# Altium integrated library TI Microcontroller MSP430 16-bit Ultra-Low Power.IntLib: 1463 symbols (part 63 of 130)
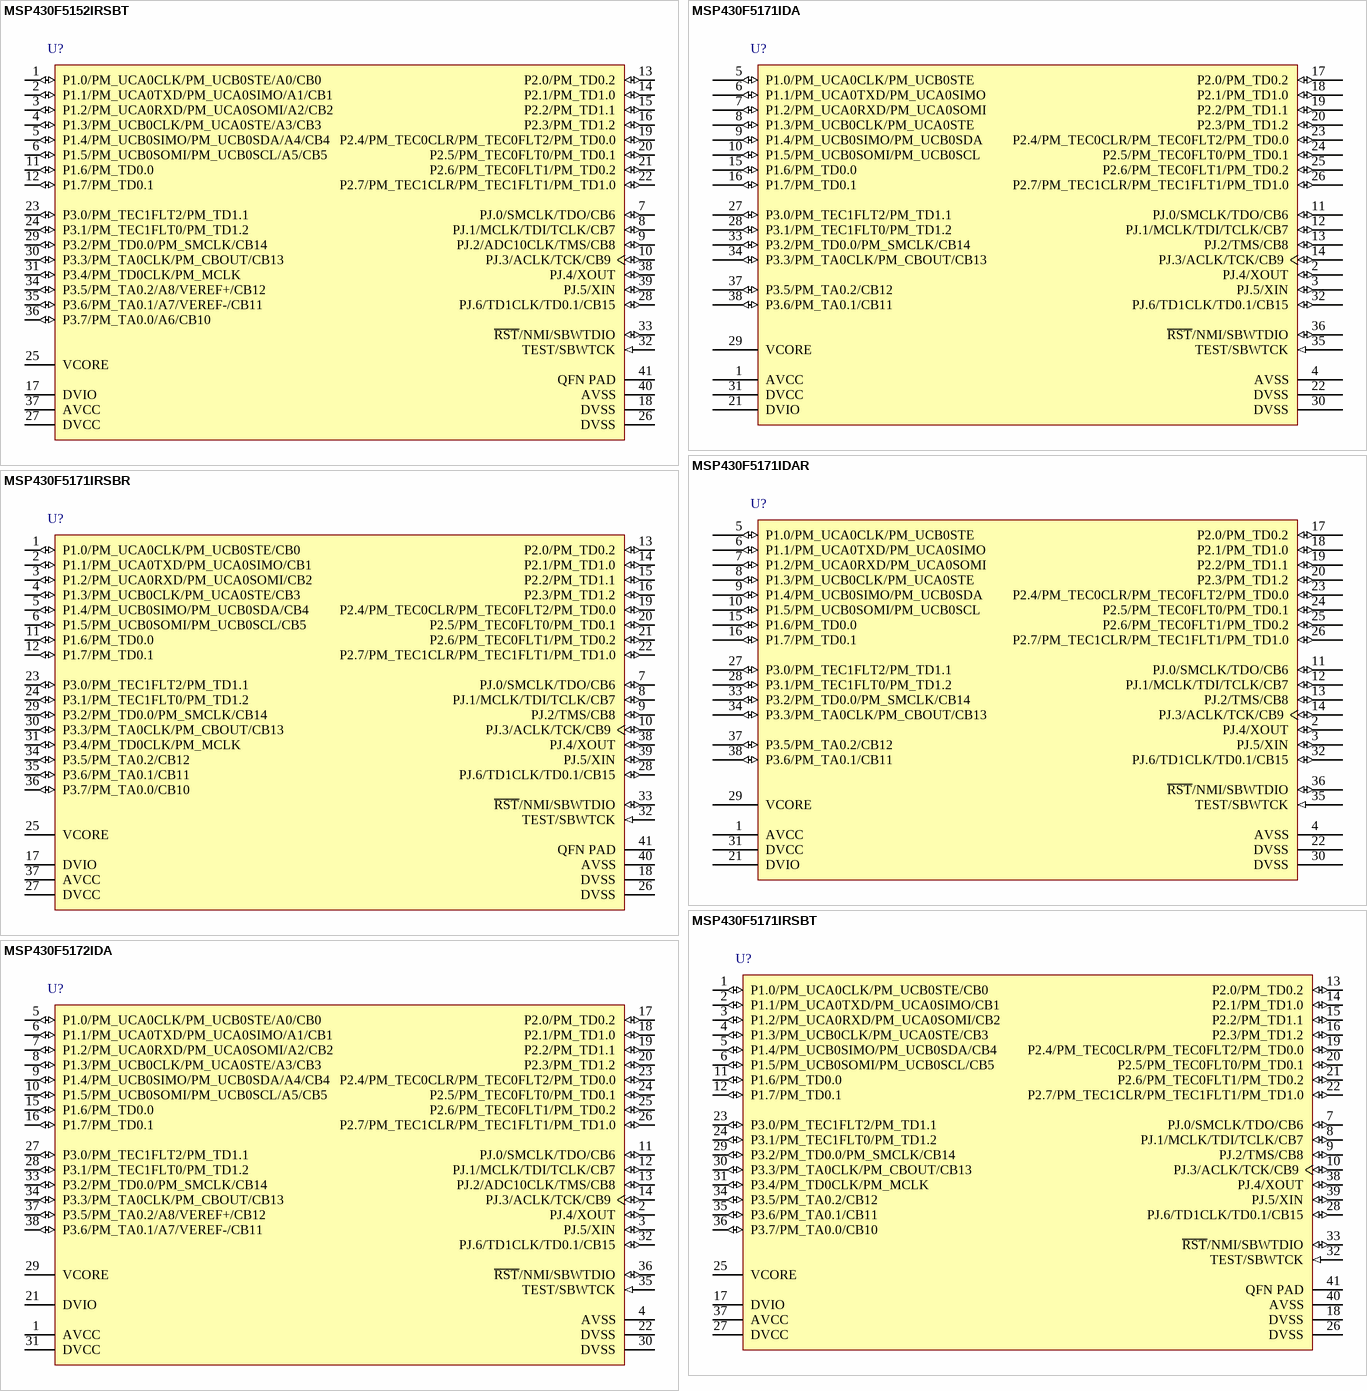
[diagram p267: symbols MSP430F5152IRSBT to MSP430F5172IDA]

## MSP430F5171IDA
designator U?
25 MHz Mixed Signal Microcontroller with 32 KB Flash, 2048 B SRAM and 29 GPIOs, -40 to 85 degC, 38-pin SOP (DA), Green (RoHS & no Sb/Br); Manufacturer: Texas Instruments; PartNumber: MSP430F5171IDA; Brown Out Reset: Yes; DMA: 3; Flash(KB): 32; Frequency(MHz): 25; GPIO: 29; Multiplier: 32x32; SRAM(B): 2048; SubFamily: 5 Series; USCI_A (UART/LIN/IrDA/SPI): 1; DatasheetVersion: SLAS619G; PackageVersion: 4040066/F; PackageReference: DA38; PackageDescription: 38-Pin Plastic Small-Outline Package, Body 6.10 x 12.50 mm, Pitch 0.65 mm; Supplier 1: Digi-Key; Supplier Part Number 1: MSP430F5152IRSBT-ND; Supplier 2: Newark; Supplier Part Number 2: 61T5919; Supplier 3: Mouser; Supplier Part Number 3: 595-MSP430F5152IRSBT; Comparators: Yes; Eco-Plan: Green (RoHS & no Sb/Br); SVS: Yes; Timers - 16-bit: 3; USCI_B (I2C & SPI): 1; Watchdog: Yes; Mounting Technology: Surface Mount; Code_JEDEC: MO-153; ComponentLink1Description: Manufacturer URL; ComponentLink1URL: http://www.ti.com/; ComponentLink2Description: Datasheet; ComponentLink2URL: http://www.ti.com/general/docs/lit/getliterature.tsp?genericPartNumber=MSP430F5171&fileType=pdf; ComponentLink3Description: Package Specification; ComponentLink3URL: http://www.ti.com/lit/ml/mtss002e/mtss002e.pdf
footprint TI-DA38_N (SOP, 38-Leads, Body 12.5x6.1mm, Pitch 0.65mm, IPC Medium Density)
pins: 1 AVCC (power) "Analog power supply", 2 PJ.4/XOUT (io), 3 PJ.5/XIN (io), 4 AVSS (power) "Analog ground supply", 5 P1.0/PM_UCA0CLK/PM_UCB0STE (io), 6 P1.1/PM_UCA0TXD/PM_UCA0SIMO (io), 7 P1.2/PM_UCA0RXD/PM_UCA0SOMI (io), 8 P1.3/PM_UCB0CLK/PM_UCA0STE (io), 9 P1.4/PM_UCB0SIMO/PM_UCB0SDA (io), 10 P1.5/PM_UCB0SOMI/PM_UCB0SCL (io), 11 PJ.0/SMCLK/TDO/CB6 (io), 12 PJ.1/MCLK/TDI/TCLK/CB7 (io), 13 PJ.2/TMS/CB8 (io), 14 PJ.3/ACLK/TCK/CB9 (io), 15 P1.6/PM_TD0.0 (io), 16 P1.7/PM_TD0.1 (io), 17 P2.0/PM_TD0.2 (io), 18 P2.1/PM_TD1.0 (io), 19 P2.2/PM_TD1.1 (io), 20 P2.3/PM_TD1.2 (io), 21 DVIO (power) "5V tolerant digital I/O power supply", 22 DVSS (power) "Digital ground supply", 23 P2.4/PM_TEC0CLR/PM_TEC0FLT2/PM_TD0.0 (io), 24 P2.5/PM_TEC0FLT0/PM_TD0.1 (io), 25 P2.6/PM_TEC0FLT1/PM_TD0.2 (io), 26 P2.7/PM_TEC1CLR/PM_TEC1FLT1/PM_TD1.0 (io), 27 P3.0/PM_TEC1FLT2/PM_TD1.1 (io), 28 P3.1/PM_TEC1FLT0/PM_TD1.2 (io), 29 VCORE "Regulated core power supply", 30 DVSS "Digital ground supply", 31 DVCC (power) "Digital power supply", 32 PJ.6/TD1CLK/TD0.1/CB15 (io), 33 P3.2/PM_TD0.0/PM_SMCLK/CB14 (io), 34 P3.3/PM_TA0CLK/PM_CBOUT/CB13 (io), 35 TEST/SBWTCK (in), 36 ~{RST}/NMI/SBWTDIO (io), 37 P3.5/PM_TA0.2/CB12 (io), 38 P3.6/PM_TA0.1/CB11 (io)

## MSP430F5171IDAR
designator U?
25 MHz Mixed Signal Microcontroller with 32 KB Flash, 2048 B SRAM and 29 GPIOs, -40 to 85 degC, 38-pin SOP (DA), Green (RoHS & no Sb/Br); Manufacturer: Texas Instruments; PartNumber: MSP430F5171IDAR; Brown Out Reset: Yes; DMA: 3; Flash(KB): 32; Frequency(MHz): 25; GPIO: 29; Multiplier: 32x32; SRAM(B): 2048; SubFamily: 5 Series; USCI_A (UART/LIN/IrDA/SPI): 1; DatasheetVersion: SLAS619G; PackageVersion: 4040066/F; PackageReference: DA38; PackageDescription: 38-Pin Plastic Small-Outline Package, Body 6.10 x 12.50 mm, Pitch 0.65 mm; Supplier 1: Digi-Key; Supplier Part Number 1: MSP430F5171IDA-ND; Supplier 2: Mouser; Supplier Part Number 2: 595-MSP430F5171IDA; Comparators: Yes; Eco-Plan: Green (RoHS & no Sb/Br); SVS: Yes; Timers - 16-bit: 3; USCI_B (I2C & SPI): 1; Watchdog: Yes; Mounting Technology: Surface Mount; Code_JEDEC: MO-153; ComponentLink1Description: Manufacturer URL; ComponentLink1URL: http://www.ti.com/; ComponentLink2Description: Datasheet; ComponentLink2URL: http://www.ti.com/general/docs/lit/getliterature.tsp?genericPartNumber=MSP430F5171&fileType=pdf; ComponentLink3Description: Package Specification; ComponentLink3URL: http://www.ti.com/lit/ml/mtss002e/mtss002e.pdf
footprint TI-DA38_N (SOP, 38-Leads, Body 12.5x6.1mm, Pitch 0.65mm, IPC Medium Density)
pins: 1 AVCC (power) "Analog power supply", 2 PJ.4/XOUT (io), 3 PJ.5/XIN (io), 4 AVSS (power) "Analog ground supply", 5 P1.0/PM_UCA0CLK/PM_UCB0STE (io), 6 P1.1/PM_UCA0TXD/PM_UCA0SIMO (io), 7 P1.2/PM_UCA0RXD/PM_UCA0SOMI (io), 8 P1.3/PM_UCB0CLK/PM_UCA0STE (io), 9 P1.4/PM_UCB0SIMO/PM_UCB0SDA (io), 10 P1.5/PM_UCB0SOMI/PM_UCB0SCL (io), 11 PJ.0/SMCLK/TDO/CB6 (io), 12 PJ.1/MCLK/TDI/TCLK/CB7 (io), 13 PJ.2/TMS/CB8 (io), 14 PJ.3/ACLK/TCK/CB9 (io), 15 P1.6/PM_TD0.0 (io), 16 P1.7/PM_TD0.1 (io), 17 P2.0/PM_TD0.2 (io), 18 P2.1/PM_TD1.0 (io), 19 P2.2/PM_TD1.1 (io), 20 P2.3/PM_TD1.2 (io), 21 DVIO (power) "5V tolerant digital I/O power supply", 22 DVSS (power) "Digital ground supply", 23 P2.4/PM_TEC0CLR/PM_TEC0FLT2/PM_TD0.0 (io), 24 P2.5/PM_TEC0FLT0/PM_TD0.1 (io), 25 P2.6/PM_TEC0FLT1/PM_TD0.2 (io), 26 P2.7/PM_TEC1CLR/PM_TEC1FLT1/PM_TD1.0 (io), 27 P3.0/PM_TEC1FLT2/PM_TD1.1 (io), 28 P3.1/PM_TEC1FLT0/PM_TD1.2 (io), 29 VCORE "Regulated core power supply", 30 DVSS "Digital ground supply", 31 DVCC (power) "Digital power supply", 32 PJ.6/TD1CLK/TD0.1/CB15 (io), 33 P3.2/PM_TD0.0/PM_SMCLK/CB14 (io), 34 P3.3/PM_TA0CLK/PM_CBOUT/CB13 (io), 35 TEST/SBWTCK (in), 36 ~{RST}/NMI/SBWTDIO (io), 37 P3.5/PM_TA0.2/CB12 (io), 38 P3.6/PM_TA0.1/CB11 (io)

## MSP430F5171IRSBR
designator U?
25 MHz Mixed Signal Microcontroller with 32 KB Flash, 2048 B SRAM and 29 GPIOs, -40 to 85 degC, 40-pin QFN (RSB), Green (RoHS & no Sb/Br); Manufacturer: Texas Instruments; PartNumber: MSP430F5171IRSBR; Brown Out Reset: Yes; DMA: 3; Flash(KB): 32; Frequency(MHz): 25; GPIO: 29; Multiplier: 32x32; SRAM(B): 2048; SubFamily: 5 Series; USCI_A (UART/LIN/IrDA/SPI): 1; DatasheetVersion: SLAS619G; PackageVersion: 4207182/C; PackageReference: RSB40-3500X3500TP; PackageDescription: 40-Pin Plastic Flat Pack, Body 5 × 5 mm, Pitch 0.4mm; Supplier 1: Digi-Key; Supplier Part Number 1: 296-29350-2-ND; Supplier 2: Digi-Key; Supplier Part Number 2: 296-29350-1-ND; Supplier 3: Digi-Key; Supplier Part Number 3: 296-29350-6-ND; Supplier 4: Farnell; Supplier Part Number 4: 2057045; Supplier 5: Newark; Supplier Part Number 5: 61T5921; Supplier 6: Mouser; Supplier Part Number 6: 595-MSP430F5171IDAR; Comparators: Yes; Eco-Plan: Green (RoHS & no Sb/Br); SVS: Yes; Timers - 16-bit: 3; USCI_B (I2C & SPI): 1; Watchdog: Yes; Mounting Technology: Surface Mount; ComponentLink1Description: Manufacturer URL; ComponentLink1URL: http://www.ti.com/; ComponentLink2Description: Datasheet; ComponentLink2URL: http://www.ti.com/general/docs/lit/getliterature.tsp?genericPartNumber=MSP430F5171&fileType=pdf; ComponentLink3Description: Package Specification; ComponentLink3URL: http://www.ti.com/lit/ml/mpqf185b/mpqf185b.pdf
footprint TI-RSB40-3500X3500TP_N (QFN, 40-Leads, Body 5x5mm, Pitch 0.4mm, Thermal Pad 3.5x3.5mm, IPC Medium Density)
pins: 1 P1.0/PM_UCA0CLK/PM_UCB0STE/CB0 (io), 2 P1.1/PM_UCA0TXD/PM_UCA0SIMO/CB1 (io), 3 P1.2/PM_UCA0RXD/PM_UCA0SOMI/CB2 (io), 4 P1.3/PM_UCB0CLK/PM_UCA0STE/CB3 (io), 5 P1.4/PM_UCB0SIMO/PM_UCB0SDA/CB4 (io), 6 P1.5/PM_UCB0SOMI/PM_UCB0SCL/CB5 (io), 7 PJ.0/SMCLK/TDO/CB6 (io), 8 PJ.1/MCLK/TDI/TCLK/CB7 (io), 9 PJ.2/TMS/CB8 (io), 10 PJ.3/ACLK/TCK/CB9 (io), 11 P1.6/PM_TD0.0 (io), 12 P1.7/PM_TD0.1 (io), 13 P2.0/PM_TD0.2 (io), 14 P2.1/PM_TD1.0 (io), 15 P2.2/PM_TD1.1 (io), 16 P2.3/PM_TD1.2 (io), 17 DVIO (power) "5V tolerant digital I/O power supply", 18 DVSS (power) "Digital ground supply", 19 P2.4/PM_TEC0CLR/PM_TEC0FLT2/PM_TD0.0 (io), 20 P2.5/PM_TEC0FLT0/PM_TD0.1 (io), 21 P2.6/PM_TEC0FLT1/PM_TD0.2 (io), 22 P2.7/PM_TEC1CLR/PM_TEC1FLT1/PM_TD1.0 (io), 23 P3.0/PM_TEC1FLT2/PM_TD1.1 (io), 24 P3.1/PM_TEC1FLT0/PM_TD1.2 (io), 25 VCORE "Regulated core power supply", 26 DVSS (power) "Digital ground supply", 27 DVCC (power) "Digital power supply", 28 PJ.6/TD1CLK/TD0.1/CB15 (io), 29 P3.2/PM_TD0.0/PM_SMCLK/CB14 (io), 30 P3.3/PM_TA0CLK/PM_CBOUT/CB13 (io), 31 P3.4/PM_TD0CLK/PM_MCLK (io), 32 TEST/SBWTCK (in), 33 ~{RST}/NMI/SBWTDIO (io), 34 P3.5/PM_TA0.2/CB12 (io), 35 P3.6/PM_TA0.1/CB11 (io), 36 P3.7/PM_TA0.0/CB10 (io), 37 AVCC (power) "Analog power supply", 38 PJ.4/XOUT (io), 39 PJ.5/XIN (io), 40 AVSS (power) "Analog ground supply", 41 QFN PAD (power) "Recommended to connect to DVSS externally"

## MSP430F5171IRSBT
designator U?
25 MHz Mixed Signal Microcontroller with 32 KB Flash, 2048 B SRAM and 29 GPIOs, -40 to 85 degC, 40-pin QFN (RSB), Green (RoHS & no Sb/Br); Manufacturer: Texas Instruments; PartNumber: MSP430F5171IRSBT; Brown Out Reset: Yes; DMA: 3; Flash(KB): 32; Frequency(MHz): 25; GPIO: 29; Multiplier: 32x32; SRAM(B): 2048; SubFamily: 5 Series; USCI_A (UART/LIN/IrDA/SPI): 1; DatasheetVersion: SLAS619G; PackageVersion: 4207182/C; PackageReference: RSB40-3500X3500TP; PackageDescription: 40-Pin Plastic Flat Pack, Body 5 × 5 mm, Pitch 0.4mm; Supplier 1: Digi-Key; Supplier Part Number 1: 296-29351-2-ND; Supplier 2: Digi-Key; Supplier Part Number 2: 296-29351-1-ND; Supplier 3: Digi-Key; Supplier Part Number 3: 296-29351-6-ND; Supplier 4: Mouser; Supplier Part Number 4: 595-MSP430F5171IRSBR; Comparators: Yes; Eco-Plan: Green (RoHS & no Sb/Br); SVS: Yes; Timers - 16-bit: 3; USCI_B (I2C & SPI): 1; Watchdog: Yes; Mounting Technology: Surface Mount; ComponentLink1Description: Manufacturer URL; ComponentLink1URL: http://www.ti.com/; ComponentLink2Description: Datasheet; ComponentLink2URL: http://www.ti.com/general/docs/lit/getliterature.tsp?genericPartNumber=MSP430F5171&fileType=pdf; ComponentLink3Description: Package Specification; ComponentLink3URL: http://www.ti.com/lit/ml/mpqf185b/mpqf185b.pdf
footprint TI-RSB40-3500X3500TP_N (QFN, 40-Leads, Body 5x5mm, Pitch 0.4mm, Thermal Pad 3.5x3.5mm, IPC Medium Density)
pins: 1 P1.0/PM_UCA0CLK/PM_UCB0STE/CB0 (io), 2 P1.1/PM_UCA0TXD/PM_UCA0SIMO/CB1 (io), 3 P1.2/PM_UCA0RXD/PM_UCA0SOMI/CB2 (io), 4 P1.3/PM_UCB0CLK/PM_UCA0STE/CB3 (io), 5 P1.4/PM_UCB0SIMO/PM_UCB0SDA/CB4 (io), 6 P1.5/PM_UCB0SOMI/PM_UCB0SCL/CB5 (io), 7 PJ.0/SMCLK/TDO/CB6 (io), 8 PJ.1/MCLK/TDI/TCLK/CB7 (io), 9 PJ.2/TMS/CB8 (io), 10 PJ.3/ACLK/TCK/CB9 (io), 11 P1.6/PM_TD0.0 (io), 12 P1.7/PM_TD0.1 (io), 13 P2.0/PM_TD0.2 (io), 14 P2.1/PM_TD1.0 (io), 15 P2.2/PM_TD1.1 (io), 16 P2.3/PM_TD1.2 (io), 17 DVIO (power) "5V tolerant digital I/O power supply", 18 DVSS (power) "Digital ground supply", 19 P2.4/PM_TEC0CLR/PM_TEC0FLT2/PM_TD0.0 (io), 20 P2.5/PM_TEC0FLT0/PM_TD0.1 (io), 21 P2.6/PM_TEC0FLT1/PM_TD0.2 (io), 22 P2.7/PM_TEC1CLR/PM_TEC1FLT1/PM_TD1.0 (io), 23 P3.0/PM_TEC1FLT2/PM_TD1.1 (io), 24 P3.1/PM_TEC1FLT0/PM_TD1.2 (io), 25 VCORE "Regulated core power supply", 26 DVSS (power) "Digital ground supply", 27 DVCC (power) "Digital power supply", 28 PJ.6/TD1CLK/TD0.1/CB15 (io), 29 P3.2/PM_TD0.0/PM_SMCLK/CB14 (io), 30 P3.3/PM_TA0CLK/PM_CBOUT/CB13 (io), 31 P3.4/PM_TD0CLK/PM_MCLK (io), 32 TEST/SBWTCK (in), 33 ~{RST}/NMI/SBWTDIO (io), 34 P3.5/PM_TA0.2/CB12 (io), 35 P3.6/PM_TA0.1/CB11 (io), 36 P3.7/PM_TA0.0/CB10 (io), 37 AVCC (power) "Analog power supply", 38 PJ.4/XOUT (io), 39 PJ.5/XIN (io), 40 AVSS (power) "Analog ground supply", 41 QFN PAD (power) "Recommended to connect to DVSS externally"

## MSP430F5172IDA
designator U?
25 MHz Mixed Signal Microcontroller with 32 KB Flash, 2048 B SRAM and 29 GPIOs, -40 to 85 degC, 38-pin SOP (DA), Green (RoHS & no Sb/Br); Manufacturer: Texas Instruments; PartNumber: MSP430F5172IDA; ADC: 10-bit SAR; ADC Channels: 8; Brown Out Reset: Yes; DMA: 3; Flash(KB): 32; Frequency(MHz): 25; GPIO: 29; Multiplier: 32x32; SRAM(B): 2048; SubFamily: 5 Series; Timers - 16-bit: 2; USCI_A (UART/LIN/IrDA/SPI): 1; DatasheetVersion: SLAS619G; PackageVersion: 4040066/F; PackageReference: DA38; PackageDescription: 38-Pin Plastic Small-Outline Package, Body 6.10 x 12.50 mm, Pitch 0.65 mm; Supplier 1: Digi-Key; Supplier Part Number 1: 296-29521-2-ND; Supplier 2: Digi-Key; Supplier Part Number 2: 296-29521-1-ND; Supplier 3: Digi-Key; Supplier Part Number 3: 296-29521-6-ND; Supplier 4: Farnell; Supplier Part Number 4: 2057046; Supplier 5: Newark; Supplier Part Number 5: 61T5923; Supplier 6: Mouser; Supplier Part Number 6: 595-MSP430F5171IRSBT; Comparators: Yes; Eco-Plan: Green (RoHS & no Sb/Br); SVS: Yes; Temp Sensor: Yes; USCI_B (I2C & SPI): 1; Watchdog: Yes; Mounting Technology: Surface Mount; Code_JEDEC: MO-153; ComponentLink1Description: Manufacturer URL; ComponentLink1URL: http://www.ti.com/; ComponentLink2Description: Datasheet; ComponentLink2URL: http://www.ti.com/general/docs/lit/getliterature.tsp?genericPartNumber=MSP430F5172&fileType=pdf; ComponentLink3Description: Package Specification; ComponentLink3URL: http://www.ti.com/lit/ml/mtss002e/mtss002e.pdf
footprint TI-DA38_N (SOP, 38-Leads, Body 12.5x6.1mm, Pitch 0.65mm, IPC Medium Density)
pins: 1 AVCC (power) "Analog power supply", 2 PJ.4/XOUT (io), 3 PJ.5/XIN (io), 4 AVSS (power) "Analog ground supply", 5 P1.0/PM_UCA0CLK/PM_UCB0STE/A0/CB0 (io), 6 P1.1/PM_UCA0TXD/PM_UCA0SIMO/A1/CB1 (io), 7 P1.2/PM_UCA0RXD/PM_UCA0SOMI/A2/CB2 (io), 8 P1.3/PM_UCB0CLK/PM_UCA0STE/A3/CB3 (io), 9 P1.4/PM_UCB0SIMO/PM_UCB0SDA/A4/CB4 (io), 10 P1.5/PM_UCB0SOMI/PM_UCB0SCL/A5/CB5 (io), 11 PJ.0/SMCLK/TDO/CB6 (io), 12 PJ.1/MCLK/TDI/TCLK/CB7 (io), 13 PJ.2/ADC10CLK/TMS/CB8 (io), 14 PJ.3/ACLK/TCK/CB9 (io), 15 P1.6/PM_TD0.0 (io), 16 P1.7/PM_TD0.1 (io), 17 P2.0/PM_TD0.2 (io), 18 P2.1/PM_TD1.0 (io), 19 P2.2/PM_TD1.1 (io), 20 P2.3/PM_TD1.2 (io), 21 DVIO (power) "5V tolerant digital I/O power supply", 22 DVSS (power) "Digital ground supply", 23 P2.4/PM_TEC0CLR/PM_TEC0FLT2/PM_TD0.0 (io), 24 P2.5/PM_TEC0FLT0/PM_TD0.1 (io), 25 P2.6/PM_TEC0FLT1/PM_TD0.2 (io), 26 P2.7/PM_TEC1CLR/PM_TEC1FLT1/PM_TD1.0 (io), 27 P3.0/PM_TEC1FLT2/PM_TD1.1 (io), 28 P3.1/PM_TEC1FLT0/PM_TD1.2 (io), 29 VCORE "Regulated core power supply", 30 DVSS (power) "Digital ground supply", 31 DVCC (power) "Digital power supply", 32 PJ.6/TD1CLK/TD0.1/CB15 (io), 33 P3.2/PM_TD0.0/PM_SMCLK/CB14 (io), 34 P3.3/PM_TA0CLK/PM_CBOUT/CB13 (io), 35 TEST/SBWTCK (in), 36 ~{RST}/NMI/SBWTDIO (io), 37 P3.5/PM_TA0.2/A8/VEREF+/CB12 (io), 38 P3.6/PM_TA0.1/A7/VEREF-/CB11 (io)

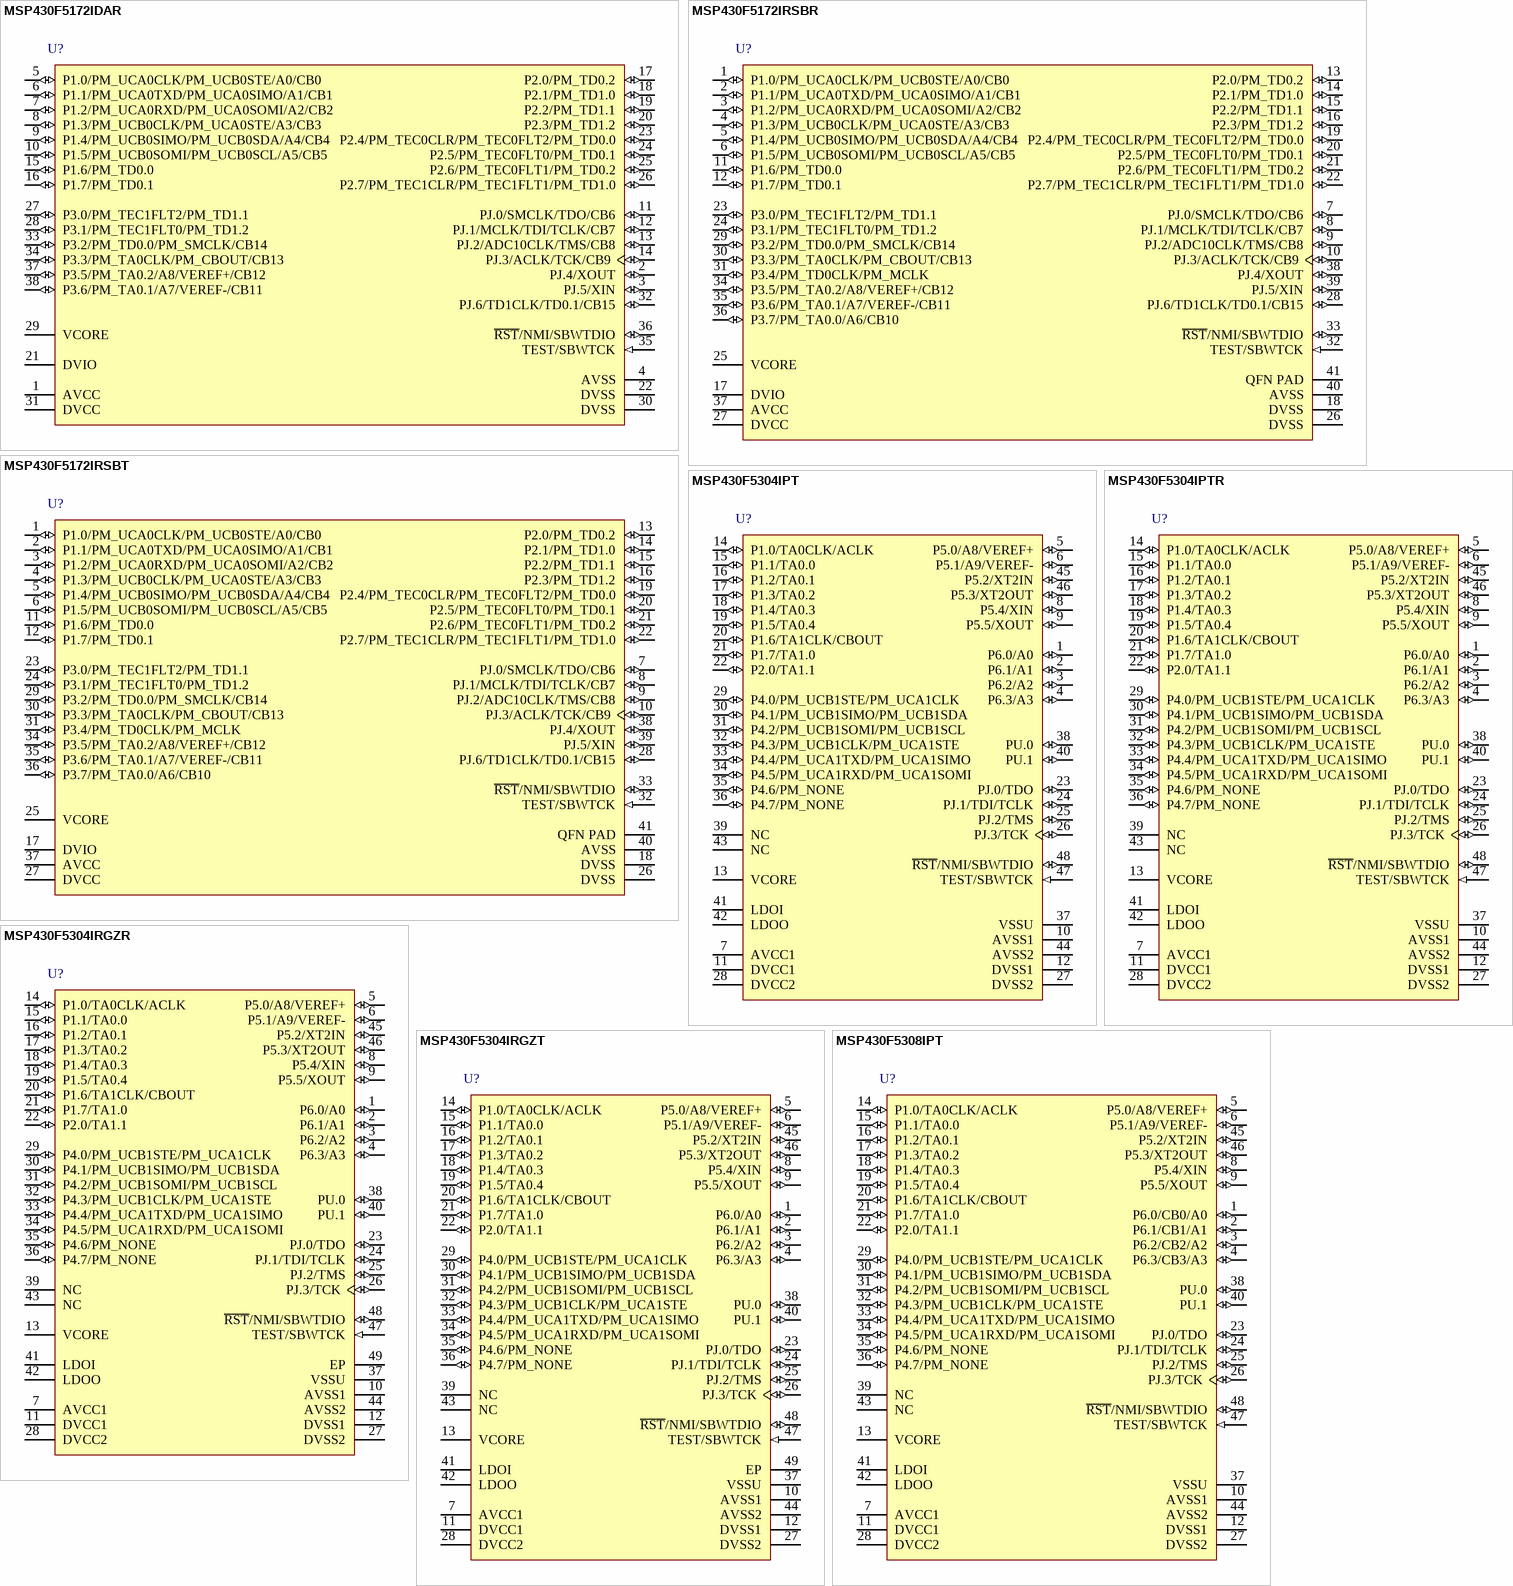
[diagram p93: symbols MSP430F5172IDAR to MSP430F5308IPT]

## MSP430F5172IDAR
designator U?
25 MHz Mixed Signal Microcontroller with 32 KB Flash, 2048 B SRAM and 29 GPIOs, -40 to 85 degC, 38-pin SOP (DA), Green (RoHS & no Sb/Br); Manufacturer: Texas Instruments; PartNumber: MSP430F5172IDAR; ADC: 10-bit SAR; ADC Channels: 8; Brown Out Reset: Yes; DMA: 3; Flash(KB): 32; Frequency(MHz): 25; GPIO: 29; Multiplier: 32x32; SRAM(B): 2048; SubFamily: 5 Series; Timers - 16-bit: 2; USCI_A (UART/LIN/IrDA/SPI): 1; DatasheetVersion: SLAS619G; PackageVersion: 4040066/F; PackageReference: DA38; PackageDescription: 38-Pin Plastic Small-Outline Package, Body 6.10 x 12.50 mm, Pitch 0.65 mm; Supplier 1: Digi-Key; Supplier Part Number 1: MSP430F5172IDA-ND; Supplier 2: Mouser; Supplier Part Number 2: 595-MSP430F5172IDA; Comparators: Yes; Eco-Plan: Green (RoHS & no Sb/Br); SVS: Yes; Temp Sensor: Yes; USCI_B (I2C & SPI): 1; Watchdog: Yes; Mounting Technology: Surface Mount; Code_JEDEC: MO-153; ComponentLink1Description: Manufacturer URL; ComponentLink1URL: http://www.ti.com/; ComponentLink2Description: Datasheet; ComponentLink2URL: http://www.ti.com/general/docs/lit/getliterature.tsp?genericPartNumber=MSP430F5172&fileType=pdf; ComponentLink3Description: Package Specification; ComponentLink3URL: http://www.ti.com/lit/ml/mtss002e/mtss002e.pdf
footprint TI-DA38_N (SOP, 38-Leads, Body 12.5x6.1mm, Pitch 0.65mm, IPC Medium Density)
pins: 1 AVCC (power) "Analog power supply", 2 PJ.4/XOUT (io), 3 PJ.5/XIN (io), 4 AVSS (power) "Analog ground supply", 5 P1.0/PM_UCA0CLK/PM_UCB0STE/A0/CB0 (io), 6 P1.1/PM_UCA0TXD/PM_UCA0SIMO/A1/CB1 (io), 7 P1.2/PM_UCA0RXD/PM_UCA0SOMI/A2/CB2 (io), 8 P1.3/PM_UCB0CLK/PM_UCA0STE/A3/CB3 (io), 9 P1.4/PM_UCB0SIMO/PM_UCB0SDA/A4/CB4 (io), 10 P1.5/PM_UCB0SOMI/PM_UCB0SCL/A5/CB5 (io), 11 PJ.0/SMCLK/TDO/CB6 (io), 12 PJ.1/MCLK/TDI/TCLK/CB7 (io), 13 PJ.2/ADC10CLK/TMS/CB8 (io), 14 PJ.3/ACLK/TCK/CB9 (io), 15 P1.6/PM_TD0.0 (io), 16 P1.7/PM_TD0.1 (io), 17 P2.0/PM_TD0.2 (io), 18 P2.1/PM_TD1.0 (io), 19 P2.2/PM_TD1.1 (io), 20 P2.3/PM_TD1.2 (io), 21 DVIO (power) "5V tolerant digital I/O power supply", 22 DVSS (power) "Digital ground supply", 23 P2.4/PM_TEC0CLR/PM_TEC0FLT2/PM_TD0.0 (io), 24 P2.5/PM_TEC0FLT0/PM_TD0.1 (io), 25 P2.6/PM_TEC0FLT1/PM_TD0.2 (io), 26 P2.7/PM_TEC1CLR/PM_TEC1FLT1/PM_TD1.0 (io), 27 P3.0/PM_TEC1FLT2/PM_TD1.1 (io), 28 P3.1/PM_TEC1FLT0/PM_TD1.2 (io), 29 VCORE "Regulated core power supply", 30 DVSS (power) "Digital ground supply", 31 DVCC (power) "Digital power supply", 32 PJ.6/TD1CLK/TD0.1/CB15 (io), 33 P3.2/PM_TD0.0/PM_SMCLK/CB14 (io), 34 P3.3/PM_TA0CLK/PM_CBOUT/CB13 (io), 35 TEST/SBWTCK (in), 36 ~{RST}/NMI/SBWTDIO (io), 37 P3.5/PM_TA0.2/A8/VEREF+/CB12 (io), 38 P3.6/PM_TA0.1/A7/VEREF-/CB11 (io)

## MSP430F5172IRSBR
designator U?
25 MHz Mixed Signal Microcontroller with 32 KB Flash, 2048 B SRAM and 29 GPIOs, -40 to 85 degC, 40-pin QFN (RSB), Green (RoHS & no Sb/Br); Manufacturer: Texas Instruments; PartNumber: MSP430F5172IRSBR; ADC: 10-bit SAR; ADC Channels: 8; Brown Out Reset: Yes; DMA: 3; Flash(KB): 32; Frequency(MHz): 25; GPIO: 29; Multiplier: 32x32; SRAM(B): 2048; SubFamily: 5 Series; Timers - 16-bit: 2; USCI_A (UART/LIN/IrDA/SPI): 1; DatasheetVersion: SLAS619G; PackageVersion: 4207182/C; PackageReference: RSB40-3500X3500TP; PackageDescription: 40-Pin Plastic Flat Pack, Body 5 × 5 mm, Pitch 0.4mm; Supplier 1: Digi-Key; Supplier Part Number 1: 296-29516-2-ND; Supplier 2: Digi-Key; Supplier Part Number 2: 296-29516-1-ND; Supplier 3: Digi-Key; Supplier Part Number 3: 296-29516-6-ND; Supplier 4: Farnell; Supplier Part Number 4: 2057047; Supplier 5: Newark; Supplier Part Number 5: 61T5925; Supplier 6: Mouser; Supplier Part Number 6: 595-MSP430F5172IDAR; Comparators: Yes; Eco-Plan: Green (RoHS & no Sb/Br); SVS: Yes; Temp Sensor: Yes; USCI_B (I2C & SPI): 1; Watchdog: Yes; Mounting Technology: Surface Mount; ComponentLink1Description: Manufacturer URL; ComponentLink1URL: http://www.ti.com/; ComponentLink2Description: Datasheet; ComponentLink2URL: http://www.ti.com/general/docs/lit/getliterature.tsp?genericPartNumber=MSP430F5172&fileType=pdf; ComponentLink3Description: Package Specification; ComponentLink3URL: http://www.ti.com/lit/ml/mpqf185b/mpqf185b.pdf
footprint TI-RSB40-3500X3500TP_N (QFN, 40-Leads, Body 5x5mm, Pitch 0.4mm, Thermal Pad 3.5x3.5mm, IPC Medium Density)
pins: 1 P1.0/PM_UCA0CLK/PM_UCB0STE/A0/CB0 (io), 2 P1.1/PM_UCA0TXD/PM_UCA0SIMO/A1/CB1 (io), 3 P1.2/PM_UCA0RXD/PM_UCA0SOMI/A2/CB2 (io), 4 P1.3/PM_UCB0CLK/PM_UCA0STE/A3/CB3 (io), 5 P1.4/PM_UCB0SIMO/PM_UCB0SDA/A4/CB4 (io), 6 P1.5/PM_UCB0SOMI/PM_UCB0SCL/A5/CB5 (io), 7 PJ.0/SMCLK/TDO/CB6 (io), 8 PJ.1/MCLK/TDI/TCLK/CB7 (io), 9 PJ.2/ADC10CLK/TMS/CB8 (io), 10 PJ.3/ACLK/TCK/CB9 (io), 11 P1.6/PM_TD0.0 (io), 12 P1.7/PM_TD0.1 (io), 13 P2.0/PM_TD0.2 (io), 14 P2.1/PM_TD1.0 (io), 15 P2.2/PM_TD1.1 (io), 16 P2.3/PM_TD1.2 (io), 17 DVIO (power) "5V tolerant digital I/O power supply", 18 DVSS (power) "Digital ground supply", 19 P2.4/PM_TEC0CLR/PM_TEC0FLT2/PM_TD0.0 (io), 20 P2.5/PM_TEC0FLT0/PM_TD0.1 (io), 21 P2.6/PM_TEC0FLT1/PM_TD0.2 (io), 22 P2.7/PM_TEC1CLR/PM_TEC1FLT1/PM_TD1.0 (io), 23 P3.0/PM_TEC1FLT2/PM_TD1.1 (io), 24 P3.1/PM_TEC1FLT0/PM_TD1.2 (io), 25 VCORE "Regulated core power supply", 26 DVSS (power) "Digital ground supply", 27 DVCC (power) "Digital power supply", 28 PJ.6/TD1CLK/TD0.1/CB15 (io), 29 P3.2/PM_TD0.0/PM_SMCLK/CB14 (io), 30 P3.3/PM_TA0CLK/PM_CBOUT/CB13 (io), 31 P3.4/PM_TD0CLK/PM_MCLK (io), 32 TEST/SBWTCK (in), 33 ~{RST}/NMI/SBWTDIO (io), 34 P3.5/PM_TA0.2/A8/VEREF+/CB12 (io), 35 P3.6/PM_TA0.1/A7/VEREF-/CB11 (io), 36 P3.7/PM_TA0.0/A6/CB10 (io), 37 AVCC (power) "Analog power supply", 38 PJ.4/XOUT (io), 39 PJ.5/XIN (io), 40 AVSS (power) "Analog ground supply", 41 QFN PAD (power) "Recommended to connect to DVSS externally"

## MSP430F5172IRSBT
designator U?
25 MHz Mixed Signal Microcontroller with 32 KB Flash, 2048 B SRAM and 29 GPIOs, -40 to 85 degC, 40-pin QFN (RSB), Green (RoHS & no Sb/Br); Manufacturer: Texas Instruments; PartNumber: MSP430F5172IRSBT; ADC: 10-bit SAR; ADC Channels: 8; Brown Out Reset: Yes; DMA: 3; Flash(KB): 32; Frequency(MHz): 25; GPIO: 29; Multiplier: 32x32; SRAM(B): 2048; SubFamily: 5 Series; Timers - 16-bit: 2; USCI_A (UART/LIN/IrDA/SPI): 1; DatasheetVersion: SLAS619G; PackageVersion: 4207182/C; PackageReference: RSB40-3500X3500TP; PackageDescription: 40-Pin Plastic Flat Pack, Body 5 × 5 mm, Pitch 0.4mm; Supplier 1: Digi-Key; Supplier Part Number 1: MSP430F5172IRSBR-ND; Supplier 2: Mouser; Supplier Part Number 2: 595-MSP430F5172IRSBR; Comparators: Yes; Eco-Plan: Green (RoHS & no Sb/Br); SVS: Yes; Temp Sensor: Yes; USCI_B (I2C & SPI): 1; Watchdog: Yes; Mounting Technology: Surface Mount; ComponentLink1Description: Manufacturer URL; ComponentLink1URL: http://www.ti.com/; ComponentLink2Description: Datasheet; ComponentLink2URL: http://www.ti.com/general/docs/lit/getliterature.tsp?genericPartNumber=MSP430F5172&fileType=pdf; ComponentLink3Description: Package Specification; ComponentLink3URL: http://www.ti.com/lit/ml/mpqf185b/mpqf185b.pdf
footprint TI-RSB40-3500X3500TP_N (QFN, 40-Leads, Body 5x5mm, Pitch 0.4mm, Thermal Pad 3.5x3.5mm, IPC Medium Density)
pins: 1 P1.0/PM_UCA0CLK/PM_UCB0STE/A0/CB0 (io), 2 P1.1/PM_UCA0TXD/PM_UCA0SIMO/A1/CB1 (io), 3 P1.2/PM_UCA0RXD/PM_UCA0SOMI/A2/CB2 (io), 4 P1.3/PM_UCB0CLK/PM_UCA0STE/A3/CB3 (io), 5 P1.4/PM_UCB0SIMO/PM_UCB0SDA/A4/CB4 (io), 6 P1.5/PM_UCB0SOMI/PM_UCB0SCL/A5/CB5 (io), 7 PJ.0/SMCLK/TDO/CB6 (io), 8 PJ.1/MCLK/TDI/TCLK/CB7 (io), 9 PJ.2/ADC10CLK/TMS/CB8 (io), 10 PJ.3/ACLK/TCK/CB9 (io), 11 P1.6/PM_TD0.0 (io), 12 P1.7/PM_TD0.1 (io), 13 P2.0/PM_TD0.2 (io), 14 P2.1/PM_TD1.0 (io), 15 P2.2/PM_TD1.1 (io), 16 P2.3/PM_TD1.2 (io), 17 DVIO (power) "5V tolerant digital I/O power supply", 18 DVSS (power) "Digital ground supply", 19 P2.4/PM_TEC0CLR/PM_TEC0FLT2/PM_TD0.0 (io), 20 P2.5/PM_TEC0FLT0/PM_TD0.1 (io), 21 P2.6/PM_TEC0FLT1/PM_TD0.2 (io), 22 P2.7/PM_TEC1CLR/PM_TEC1FLT1/PM_TD1.0 (io), 23 P3.0/PM_TEC1FLT2/PM_TD1.1 (io), 24 P3.1/PM_TEC1FLT0/PM_TD1.2 (io), 25 VCORE "Regulated core power supply", 26 DVSS (power) "Digital ground supply", 27 DVCC (power) "Digital power supply", 28 PJ.6/TD1CLK/TD0.1/CB15 (io), 29 P3.2/PM_TD0.0/PM_SMCLK/CB14 (io), 30 P3.3/PM_TA0CLK/PM_CBOUT/CB13 (io), 31 P3.4/PM_TD0CLK/PM_MCLK (io), 32 TEST/SBWTCK (in), 33 ~{RST}/NMI/SBWTDIO (io), 34 P3.5/PM_TA0.2/A8/VEREF+/CB12 (io), 35 P3.6/PM_TA0.1/A7/VEREF-/CB11 (io), 36 P3.7/PM_TA0.0/A6/CB10 (io), 37 AVCC (power) "Analog power supply", 38 PJ.4/XOUT (io), 39 PJ.5/XIN (io), 40 AVSS (power) "Analog ground supply", 41 QFN PAD (power) "Recommended to connect to DVSS externally"

## MSP430F5304IPT
designator U?
25 MHz Mixed Signal Microcontroller with 8 KB Flash, 6144 B SRAM and 31 GPIOs, -40 to 85 degC, 48-pin QFP (PT), Green (RoHS & no Sb/Br); Manufacturer: Texas Instruments; PartNumber: MSP430F5304IPT; ADC: 10-bit SAR; ADC Channels: 8; Brown Out Reset: Yes; DMA: 3; Frequency(MHz): 25; GPIO: 31; Multiplier: 32x32; SRAM(B): 6144; SubFamily: 5 Series; Timers - 16-bit: 4; USCI_A (UART/LIN/IrDA/SPI): 1; DatasheetVersion: SLAS677C; PackageReference: PT48; PackageDescription: 48-Pin Plastic Flat Pack, Body 7.00 x 7.00 mm, Pitch 0.50 mm; Supplier 1: Digi-Key; Supplier Part Number 1: 296-29517-2-ND; Supplier 2: Digi-Key; Supplier Part Number 2: 296-29517-1-ND; Supplier 3: Digi-Key; Supplier Part Number 3: 296-29517-6-ND; Supplier 4: Farnell; Supplier Part Number 4: 2057048; Supplier 5: Newark; Supplier Part Number 5: 61T5927; Supplier 6: Mouser; Supplier Part Number 6: 595-MSP430F5172IRSBT; Comparators: Yes; Eco-Plan: Green (RoHS & no Sb/Br); Flash(KB): 8; Real-Time Clock: Yes; SVS: Yes; Temp Sensor: Yes; USCI_B (I2C & SPI): 1; Watchdog: Yes; Mounting Technology: Surface Mount; Code_JEDEC: MS-026; ComponentLink1Description: Manufacturer URL; ComponentLink1URL: http://www.ti.com/; ComponentLink2Description: Datasheet; ComponentLink2URL: http://www.ti.com/general/docs/lit/getliterature.tsp?genericPartNumber=MSP430F5304&fileType=pdf; ComponentLink3Description: Package Specification; ComponentLink3URL: http://www.ti.com/lit/ml/mtqf003a/mtqf003a.pdf
footprint TI-PT48_N (QFP, 48-Leads, Body 7x7mm, Pitch 0.5mm, IPC Medium Density)
pins: 1 P6.0/A0 (io), 2 P6.1/A1 (io), 3 P6.2/A2 (io), 4 P6.3/A3 (io), 5 P5.0/A8/VEREF+ (io), 6 P5.1/A9/VEREF- (io), 7 AVCC1 (power) "Analog power supply", 8 P5.4/XIN (io), 9 P5.5/XOUT (io), 10 AVSS1 (power) "Analog ground supply", 11 DVCC1 (power) "Digital power supply", 12 DVSS1 (power) "Digital ground supply", 13 VCORE "Regulated core power supply output (internal use only, no external current loading)", 14 P1.0/TA0CLK/ACLK (io), 15 P1.1/TA0.0 (io), 16 P1.2/TA0.1 (io), 17 P1.3/TA0.2 (io), 18 P1.4/TA0.3 (io), 19 P1.5/TA0.4 (io), 20 P1.6/TA1CLK/CBOUT (io), 21 P1.7/TA1.0 (io), 22 P2.0/TA1.1 (io), 23 PJ.0/TDO (io), 24 PJ.1/TDI/TCLK (io), 25 PJ.2/TMS (io), 26 PJ.3/TCK (io), 27 DVSS2 (power) "Digital ground supply", 28 DVCC2 (power) "Digital power supply", 29 P4.0/PM_UCB1STE/PM_UCA1CLK (io), 30 P4.1/PM_UCB1SIMO/PM_UCB1SDA (io), 31 P4.2/PM_UCB1SOMI/PM_UCB1SCL (io), 32 P4.3/PM_UCB1CLK/PM_UCA1STE (io), 33 P4.4/PM_UCA1TXD/PM_UCA1SIMO (io), 34 P4.5/PM_UCA1RXD/PM_UCA1SOMI (io), 35 P4.6/PM_NONE (io), 36 P4.7/PM_NONE (io), 37 VSSU (power) "PU ground supply", 38 PU.0 (io) "General-purpose digital I/O - controlled by PU control register", 39 NC "No connect.", 40 PU.1 (io) "General-purpose digital I/O - controlled by PU control register", 41 LDOI (power) "LDO input", 42 LDOO (power) "LDO output", 43 NC "No connect.", 44 AVSS2 (power) "Analog ground supply", 45 P5.2/XT2IN (io), 46 P5.3/XT2OUT (io), 47 TEST/SBWTCK (in), 48 ~{RST}/NMI/SBWTDIO (io)

## MSP430F5304IPTR
designator U?
25 MHz Mixed Signal Microcontroller with 8 KB Flash, 6144 B SRAM and 31 GPIOs, -40 to 85 degC, 48-pin QFP (PT), Green (RoHS & no Sb/Br); Manufacturer: Texas Instruments; PartNumber: MSP430F5304IPTR; ADC: 10-bit SAR; ADC Channels: 8; Brown Out Reset: Yes; DMA: 3; Frequency(MHz): 25; GPIO: 31; Multiplier: 32x32; SRAM(B): 6144; SubFamily: 5 Series; Timers - 16-bit: 4; USCI_A (UART/LIN/IrDA/SPI): 1; DatasheetVersion: SLAS677C; PackageReference: PT48; PackageDescription: 48-Pin Plastic Flat Pack, Body 7.00 x 7.00 mm, Pitch 0.50 mm; Supplier 1: Digi-Key; Supplier Part Number 1: MSP430F5304IPT-ND; Supplier 2: Mouser; Supplier Part Number 2: 595-MSP430F5304IPT; Comparators: Yes; Eco-Plan: Green (RoHS & no Sb/Br); Flash(KB): 8; Real-Time Clock: Yes; SVS: Yes; Temp Sensor: Yes; USCI_B (I2C & SPI): 1; Watchdog: Yes; Mounting Technology: Surface Mount; Code_JEDEC: MS-026; ComponentLink1Description: Manufacturer URL; ComponentLink1URL: http://www.ti.com/; ComponentLink2Description: Datasheet; ComponentLink2URL: http://www.ti.com/general/docs/lit/getliterature.tsp?genericPartNumber=MSP430F5304&fileType=pdf; ComponentLink3Description: Package Specification; ComponentLink3URL: http://www.ti.com/lit/ml/mtqf003a/mtqf003a.pdf
footprint TI-PT48_N (QFP, 48-Leads, Body 7x7mm, Pitch 0.5mm, IPC Medium Density)
pins: 1 P6.0/A0 (io), 2 P6.1/A1 (io), 3 P6.2/A2 (io), 4 P6.3/A3 (io), 5 P5.0/A8/VEREF+ (io), 6 P5.1/A9/VEREF- (io), 7 AVCC1 (power) "Analog power supply", 8 P5.4/XIN (io), 9 P5.5/XOUT (io), 10 AVSS1 (power) "Analog ground supply", 11 DVCC1 (power) "Digital power supply", 12 DVSS1 (power) "Digital ground supply", 13 VCORE "Regulated core power supply output (internal use only, no external current loading)", 14 P1.0/TA0CLK/ACLK (io), 15 P1.1/TA0.0 (io), 16 P1.2/TA0.1 (io), 17 P1.3/TA0.2 (io), 18 P1.4/TA0.3 (io), 19 P1.5/TA0.4 (io), 20 P1.6/TA1CLK/CBOUT (io), 21 P1.7/TA1.0 (io), 22 P2.0/TA1.1 (io), 23 PJ.0/TDO (io), 24 PJ.1/TDI/TCLK (io), 25 PJ.2/TMS (io), 26 PJ.3/TCK (io), 27 DVSS2 (power) "Digital ground supply", 28 DVCC2 (power) "Digital power supply", 29 P4.0/PM_UCB1STE/PM_UCA1CLK (io), 30 P4.1/PM_UCB1SIMO/PM_UCB1SDA (io), 31 P4.2/PM_UCB1SOMI/PM_UCB1SCL (io), 32 P4.3/PM_UCB1CLK/PM_UCA1STE (io), 33 P4.4/PM_UCA1TXD/PM_UCA1SIMO (io), 34 P4.5/PM_UCA1RXD/PM_UCA1SOMI (io), 35 P4.6/PM_NONE (io), 36 P4.7/PM_NONE (io), 37 VSSU (power) "PU ground supply", 38 PU.0 (io) "General-purpose digital I/O - controlled by PU control register", 39 NC "No connect.", 40 PU.1 (io) "General-purpose digital I/O - controlled by PU control register", 41 LDOI (power) "LDO input", 42 LDOO (power) "LDO output", 43 NC "No connect.", 44 AVSS2 (power) "Analog ground supply", 45 P5.2/XT2IN (io), 46 P5.3/XT2OUT (io), 47 TEST/SBWTCK (in), 48 ~{RST}/NMI/SBWTDIO (io)

## MSP430F5304IRGZR
designator U?
25 MHz Mixed Signal Microcontroller with 8 KB Flash, 6144 B SRAM and 31 GPIOs, -40 to 85 degC, 48-pin QFN RGZ), Green (RoHS & no Sb/Br); Manufacturer: Texas Instruments; PartNumber: MSP430F5304IRGZR; ADC: 10-bit SAR; ADC Channels: 8; Brown Out Reset: Yes; DMA: 3; Frequency(MHz): 25; GPIO: 31; Multiplier: 32x32; SRAM(B): 6144; SubFamily: 5 Series; Timers - 16-bit: 4; USCI_A (UART/LIN/IrDA/SPI): 1; DatasheetVersion: SLAS677C; PackageVersion: 4204101/F; PackageReference: RGZ48-5150X5150TP; PackageDescription: 48-Pin Plastic Flat Pack, Body 7 x 7 mm, Pitch 0.5 mm; Supplier 1: Digi-Key; Supplier Part Number 1: MSP430F5304IPTR-ND; Supplier 2: Mouser; Supplier Part Number 2: 595-MSP430F5304IPTR; Comparators: Yes; Eco-Plan: Green (RoHS & no Sb/Br); Flash(KB): 8; Real-Time Clock: Yes; SVS: Yes; Temp Sensor: Yes; USCI_B (I2C & SPI): 1; Watchdog: Yes; Mounting Technology: Surface Mount; Code_JEDEC: MO-220; ComponentLink1Description: Manufacturer URL; ComponentLink1URL: http://www.ti.com/; ComponentLink2Description: Datasheet; ComponentLink2URL: http://www.ti.com/general/docs/lit/getliterature.tsp?genericPartNumber=MSP430F5304&fileType=pdf; ComponentLink3Description: Package Specification; ComponentLink3URL: http://www.ti.com/lit/ml/mpqf123e/mpqf123e.pdf
footprint TI-RGZ48-5150X5150TP_N (QFN, 48-Leads, Body 7x7mm, Pitch 0.5mm, Thermal Pad 5.15X5.15mm, IPC Medium Density)
pins: 1 P6.0/A0 (io), 2 P6.1/A1 (io), 3 P6.2/A2 (io), 4 P6.3/A3 (io), 5 P5.0/A8/VEREF+ (io), 6 P5.1/A9/VEREF- (io), 7 AVCC1 (power) "Analog power supply", 8 P5.4/XIN (io), 9 P5.5/XOUT (io), 10 AVSS1 (power) "Analog ground supply", 11 DVCC1 (power) "Digital power supply", 12 DVSS1 (power) "Digital ground supply", 13 VCORE "Regulated core power supply output (internal use only, no external current loading)", 14 P1.0/TA0CLK/ACLK (io), 15 P1.1/TA0.0 (io), 16 P1.2/TA0.1 (io), 17 P1.3/TA0.2 (io), 18 P1.4/TA0.3 (io), 19 P1.5/TA0.4 (io), 20 P1.6/TA1CLK/CBOUT (io), 21 P1.7/TA1.0 (io), 22 P2.0/TA1.1 (io), 23 PJ.0/TDO (io), 24 PJ.1/TDI/TCLK (io), 25 PJ.2/TMS (io), 26 PJ.3/TCK (io), 27 DVSS2 (power) "Digital ground supply", 28 DVCC2 (power) "Digital power supply", 29 P4.0/PM_UCB1STE/PM_UCA1CLK (io), 30 P4.1/PM_UCB1SIMO/PM_UCB1SDA (io), 31 P4.2/PM_UCB1SOMI/PM_UCB1SCL (io), 32 P4.3/PM_UCB1CLK/PM_UCA1STE (io), 33 P4.4/PM_UCA1TXD/PM_UCA1SIMO (io), 34 P4.5/PM_UCA1RXD/PM_UCA1SOMI (io), 35 P4.6/PM_NONE (io), 36 P4.7/PM_NONE (io), 37 VSSU (power) "PU ground supply", 38 PU.0 (io) "General-purpose digital I/O - controlled by PU control register", 39 NC "No connect.", 40 PU.1 (io) "General-purpose digital I/O - controlled by PU control register", 41 LDOI (power) "LDO input", 42 LDOO (power) "LDO output", 43 NC "No connect.", 44 AVSS2 (power) "Analog ground supply", 45 P5.2/XT2IN (io), 46 P5.3/XT2OUT (io), 47 TEST/SBWTCK (in), 48 ~{RST}/NMI/SBWTDIO (io), 49 EP (power) "Exposed thermal pad on QFN packages. Connection to VSS is recommended (not available on PT package devices)."

## MSP430F5304IRGZT
designator U?
25 MHz Mixed Signal Microcontroller with 8 KB Flash, 6144 B SRAM and 31 GPIOs, -40 to 85 degC, 48-pin QFN RGZ), Green (RoHS & no Sb/Br); Manufacturer: Texas Instruments; PartNumber: MSP430F5304IRGZT; ADC: 10-bit SAR; ADC Channels: 8; Brown Out Reset: Yes; DMA: 3; Frequency(MHz): 25; GPIO: 31; Multiplier: 32x32; SRAM(B): 6144; SubFamily: 5 Series; Timers - 16-bit: 4; USCI_A (UART/LIN/IrDA/SPI): 1; DatasheetVersion: SLAS677C; PackageVersion: 4204101/F; PackageReference: RGZ48-5150X5150TP; PackageDescription: 48-Pin Plastic Flat Pack, Body 7 x 7 mm, Pitch 0.5 mm; Supplier 1: Digi-Key; Supplier Part Number 1: MSP430F5304IRGZR-ND; Supplier 2: Mouser; Supplier Part Number 2: 595-MSP430F5304IRGZR; Comparators: Yes; Eco-Plan: Green (RoHS & no Sb/Br); Flash(KB): 8; Real-Time Clock: Yes; SVS: Yes; Temp Sensor: Yes; USCI_B (I2C & SPI): 1; Watchdog: Yes; Mounting Technology: Surface Mount; Code_JEDEC: MO-220; ComponentLink1Description: Manufacturer URL; ComponentLink1URL: http://www.ti.com/; ComponentLink2Description: Datasheet; ComponentLink2URL: http://www.ti.com/general/docs/lit/getliterature.tsp?genericPartNumber=MSP430F5304&fileType=pdf; ComponentLink3Description: Package Specification; ComponentLink3URL: http://www.ti.com/lit/ml/mpqf123e/mpqf123e.pdf
footprint TI-RGZ48-5150X5150TP_N (QFN, 48-Leads, Body 7x7mm, Pitch 0.5mm, Thermal Pad 5.15X5.15mm, IPC Medium Density)
pins: 1 P6.0/A0 (io), 2 P6.1/A1 (io), 3 P6.2/A2 (io), 4 P6.3/A3 (io), 5 P5.0/A8/VEREF+ (io), 6 P5.1/A9/VEREF- (io), 7 AVCC1 (power) "Analog power supply", 8 P5.4/XIN (io), 9 P5.5/XOUT (io), 10 AVSS1 (power) "Analog ground supply", 11 DVCC1 (power) "Digital power supply", 12 DVSS1 (power) "Digital ground supply", 13 VCORE "Regulated core power supply output (internal use only, no external current loading)", 14 P1.0/TA0CLK/ACLK (io), 15 P1.1/TA0.0 (io), 16 P1.2/TA0.1 (io), 17 P1.3/TA0.2 (io), 18 P1.4/TA0.3 (io), 19 P1.5/TA0.4 (io), 20 P1.6/TA1CLK/CBOUT (io), 21 P1.7/TA1.0 (io), 22 P2.0/TA1.1 (io), 23 PJ.0/TDO (io), 24 PJ.1/TDI/TCLK (io), 25 PJ.2/TMS (io), 26 PJ.3/TCK (io), 27 DVSS2 (power) "Digital ground supply", 28 DVCC2 (power) "Digital power supply", 29 P4.0/PM_UCB1STE/PM_UCA1CLK (io), 30 P4.1/PM_UCB1SIMO/PM_UCB1SDA (io), 31 P4.2/PM_UCB1SOMI/PM_UCB1SCL (io), 32 P4.3/PM_UCB1CLK/PM_UCA1STE (io), 33 P4.4/PM_UCA1TXD/PM_UCA1SIMO (io), 34 P4.5/PM_UCA1RXD/PM_UCA1SOMI (io), 35 P4.6/PM_NONE (io), 36 P4.7/PM_NONE (io), 37 VSSU (power) "PU ground supply", 38 PU.0 (io) "General-purpose digital I/O - controlled by PU control register", 39 NC "No connect.", 40 PU.1 (io) "General-purpose digital I/O - controlled by PU control register", 41 LDOI (power) "LDO input", 42 LDOO (power) "LDO output", 43 NC "No connect.", 44 AVSS2 (power) "Analog ground supply", 45 P5.2/XT2IN (io), 46 P5.3/XT2OUT (io), 47 TEST/SBWTCK (in), 48 ~{RST}/NMI/SBWTDIO (io), 49 EP (power) "Exposed thermal pad on QFN packages. Connection to VSS is recommended (not available on PT package devices)."

## MSP430F5308IPT
designator U?
25 MHz Mixed Signal Microcontroller with 16 KB Flash, 6144 B SRAM and 47 GPIOs, -40 to 85 degC, 48-pin QFP (PT), Green (RoHS & no Sb/Br); Manufacturer: Texas Instruments; PartNumber: MSP430F5308IPT; ADC: 10-bit SAR; ADC Channels: 12; Brown Out Reset: Yes; DMA: 3; Flash(KB): 16; Frequency(MHz): 25; GPIO: 47; Multiplier: 32x32; SRAM(B): 6144; SubFamily: 5 Series; Timers - 16-bit: 4; USCI_A (UART/LIN/IrDA/SPI): 2; DatasheetVersion: SLAS677C; PackageReference: PT48; PackageDescription: 48-Pin Plastic Flat Pack, Body 7.00 x 7.00 mm, Pitch 0.50 mm; Supplier 1: Digi-Key; Supplier Part Number 1: MSP430F5304IRGZT-ND; Supplier 2: Mouser; Supplier Part Number 2: 595-MSP430F5304IRGZT; Comparators: Yes; Eco-Plan: Green (RoHS & no Sb/Br); Real-Time Clock: Yes; SVS: Yes; Temp Sensor: Yes; USCI_B (I2C & SPI): 2; Watchdog: Yes; Mounting Technology: Surface Mount; Code_JEDEC: MS-026; ComponentLink1Description: Manufacturer URL; ComponentLink1URL: http://www.ti.com/; ComponentLink2Description: Datasheet; ComponentLink2URL: http://www.ti.com/general/docs/lit/getliterature.tsp?genericPartNumber=MSP430F5308&fileType=pdf; ComponentLink3Description: Package Specification; ComponentLink3URL: http://www.ti.com/lit/ml/mtqf003a/mtqf003a.pdf
footprint TI-PT48_N (QFP, 48-Leads, Body 7x7mm, Pitch 0.5mm, IPC Medium Density)
pins: 1 P6.0/CB0/A0 (io), 2 P6.1/CB1/A1 (io), 3 P6.2/CB2/A2 (io), 4 P6.3/CB3/A3 (io), 5 P5.0/A8/VEREF+ (io), 6 P5.1/A9/VEREF- (io), 7 AVCC1 (power) "Analog power supply", 8 P5.4/XIN (io), 9 P5.5/XOUT (io), 10 AVSS1 (power) "Analog ground supply", 11 DVCC1 (power) "Digital power supply", 12 DVSS1 (power) "Digital ground supply", 13 VCORE "Regulated core power supply output (internal use only, no external current loading)", 14 P1.0/TA0CLK/ACLK (io), 15 P1.1/TA0.0 (io), 16 P1.2/TA0.1 (io), 17 P1.3/TA0.2 (io), 18 P1.4/TA0.3 (io), 19 P1.5/TA0.4 (io), 20 P1.6/TA1CLK/CBOUT (io), 21 P1.7/TA1.0 (io), 22 P2.0/TA1.1 (io), 23 PJ.0/TDO (io), 24 PJ.1/TDI/TCLK (io), 25 PJ.2/TMS (io), 26 PJ.3/TCK (io), 27 DVSS2 (power) "Digital ground supply", 28 DVCC2 (power) "Digital power supply", 29 P4.0/PM_UCB1STE/PM_UCA1CLK (io), 30 P4.1/PM_UCB1SIMO/PM_UCB1SDA (io), 31 P4.2/PM_UCB1SOMI/PM_UCB1SCL (io), 32 P4.3/PM_UCB1CLK/PM_UCA1STE (io), 33 P4.4/PM_UCA1TXD/PM_UCA1SIMO (io), 34 P4.5/PM_UCA1RXD/PM_UCA1SOMI (io), 35 P4.6/PM_NONE (io), 36 P4.7/PM_NONE (io), 37 VSSU (power) "PU ground supply", 38 PU.0 (io) "General-purpose digital I/O - controlled by PU control register", 39 NC "No connect.", 40 PU.1 (io) "General-purpose digital I/O - controlled by PU control register", 41 LDOI (power) "LDO input", 42 LDOO (power) "LDO output", 43 NC "No connect.", 44 AVSS2 (power) "Analog ground supply", 45 P5.2/XT2IN (io), 46 P5.3/XT2OUT (io), 47 TEST/SBWTCK (in), 48 ~{RST}/NMI/SBWTDIO (io)

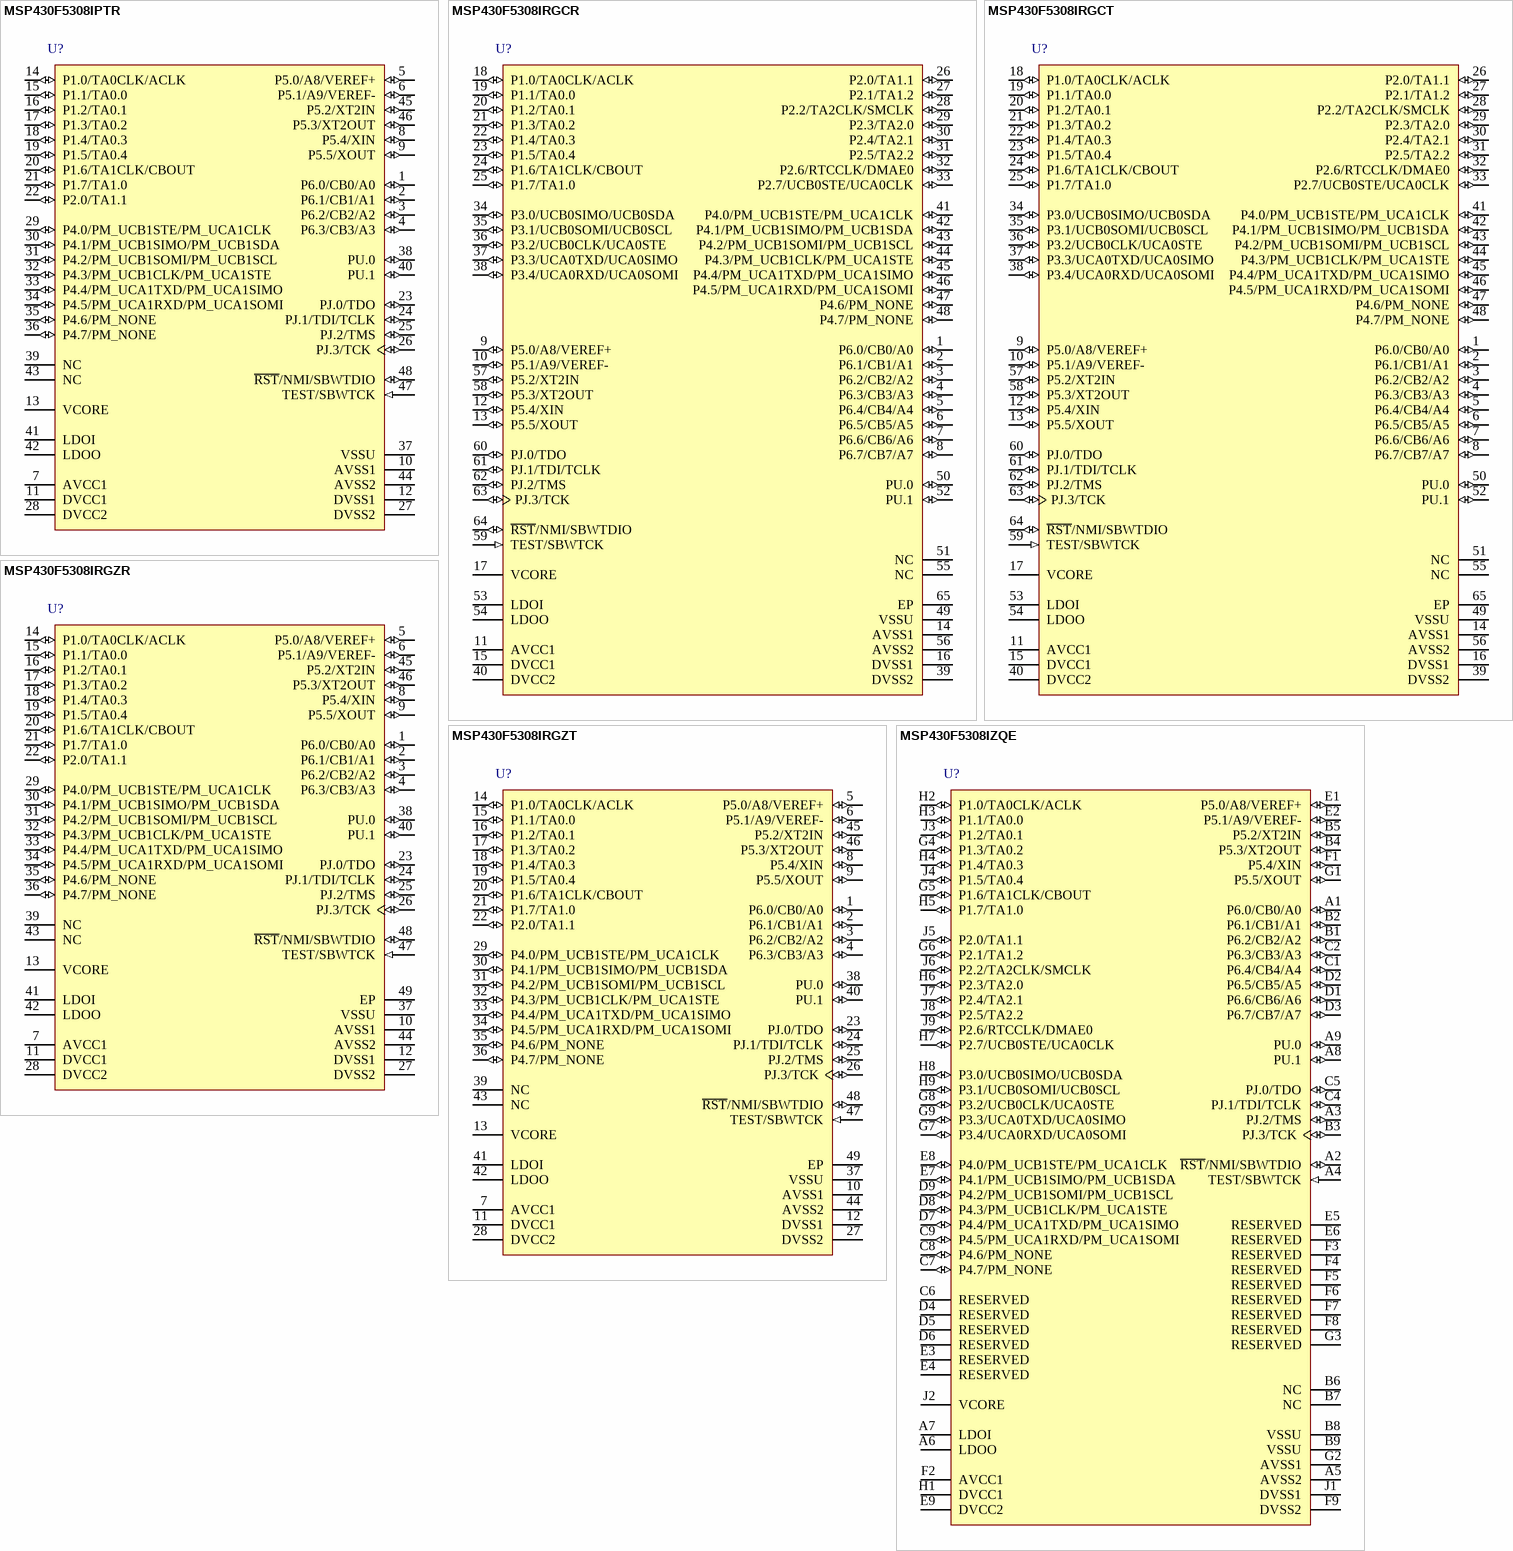
[diagram p94: symbols MSP430F5308IPTR to MSP430F5308IZQE]

## MSP430F5308IPTR
designator U?
25 MHz Mixed Signal Microcontroller with 16 KB Flash, 6144 B SRAM and 47 GPIOs, -40 to 85 degC, 48-pin QFP (PT), Green (RoHS & no Sb/Br); Manufacturer: Texas Instruments; PartNumber: MSP430F5308IPTR; ADC: 10-bit SAR; ADC Channels: 12; Brown Out Reset: Yes; DMA: 3; Flash(KB): 16; Frequency(MHz): 25; GPIO: 47; Multiplier: 32x32; SRAM(B): 6144; SubFamily: 5 Series; Timers - 16-bit: 4; USCI_A (UART/LIN/IrDA/SPI): 2; DatasheetVersion: SLAS677C; PackageReference: PT48; PackageDescription: 48-Pin Plastic Flat Pack, Body 7.00 x 7.00 mm, Pitch 0.50 mm; Supplier 1: Digi-Key; Supplier Part Number 1: 296-28544-ND; Supplier 2: Digi-Key; Supplier Part Number 2: 296-28544-2-ND; Supplier 3: Digi-Key; Supplier Part Number 3: 296-28544-6-ND; Supplier 4: Farnell; Supplier Part Number 4: 2250215; Supplier 5: Farnell; Supplier Part Number 5: 1888606; Supplier 6: Newark; Supplier Part Number 6: 32T2947; Supplier 7: Mouser; Supplier Part Number 7: 595-MSP430F5308IPT; Comparators: Yes; Eco-Plan: Green (RoHS & no Sb/Br); Real-Time Clock: Yes; SVS: Yes; Temp Sensor: Yes; USCI_B (I2C & SPI): 2; Watchdog: Yes; Mounting Technology: Surface Mount; Code_JEDEC: MS-026; ComponentLink1Description: Manufacturer URL; ComponentLink1URL: http://www.ti.com/; ComponentLink2Description: Datasheet; ComponentLink2URL: http://www.ti.com/general/docs/lit/getliterature.tsp?genericPartNumber=MSP430F5308&fileType=pdf; ComponentLink3Description: Package Specification; ComponentLink3URL: http://www.ti.com/lit/ml/mtqf003a/mtqf003a.pdf
footprint TI-PT48_N (QFP, 48-Leads, Body 7x7mm, Pitch 0.5mm, IPC Medium Density)
pins: 1 P6.0/CB0/A0 (io), 2 P6.1/CB1/A1 (io), 3 P6.2/CB2/A2 (io), 4 P6.3/CB3/A3 (io), 5 P5.0/A8/VEREF+ (io), 6 P5.1/A9/VEREF- (io), 7 AVCC1 (power) "Analog power supply", 8 P5.4/XIN (io), 9 P5.5/XOUT (io), 10 AVSS1 (power) "Analog ground supply", 11 DVCC1 (power) "Digital power supply", 12 DVSS1 (power) "Digital ground supply", 13 VCORE "Regulated core power supply output (internal use only, no external current loading)", 14 P1.0/TA0CLK/ACLK (io), 15 P1.1/TA0.0 (io), 16 P1.2/TA0.1 (io), 17 P1.3/TA0.2 (io), 18 P1.4/TA0.3 (io), 19 P1.5/TA0.4 (io), 20 P1.6/TA1CLK/CBOUT (io), 21 P1.7/TA1.0 (io), 22 P2.0/TA1.1 (io), 23 PJ.0/TDO (io), 24 PJ.1/TDI/TCLK (io), 25 PJ.2/TMS (io), 26 PJ.3/TCK (io), 27 DVSS2 (power) "Digital ground supply", 28 DVCC2 (power) "Digital power supply", 29 P4.0/PM_UCB1STE/PM_UCA1CLK (io), 30 P4.1/PM_UCB1SIMO/PM_UCB1SDA (io), 31 P4.2/PM_UCB1SOMI/PM_UCB1SCL (io), 32 P4.3/PM_UCB1CLK/PM_UCA1STE (io), 33 P4.4/PM_UCA1TXD/PM_UCA1SIMO (io), 34 P4.5/PM_UCA1RXD/PM_UCA1SOMI (io), 35 P4.6/PM_NONE (io), 36 P4.7/PM_NONE (io), 37 VSSU (power) "PU ground supply", 38 PU.0 (io) "General-purpose digital I/O - controlled by PU control register", 39 NC "No connect.", 40 PU.1 (io) "General-purpose digital I/O - controlled by PU control register", 41 LDOI (power) "LDO input", 42 LDOO (power) "LDO output", 43 NC "No connect.", 44 AVSS2 (power) "Analog ground supply", 45 P5.2/XT2IN (io), 46 P5.3/XT2OUT (io), 47 TEST/SBWTCK (in), 48 ~{RST}/NMI/SBWTDIO (io)

## MSP430F5308IRGCR
designator U?
25 MHz Mixed Signal Microcontroller with 16 KB Flash, 6144 B SRAM and 47 GPIOs, -40 to 85 degC, 64-pin QFN (RGC), Green (RoHS & no Sb/Br); Manufacturer: Texas Instruments; PartNumber: MSP430F5308IRGCR; ADC: 10-bit SAR; ADC Channels: 12; Brown Out Reset: Yes; DMA: 3; Flash(KB): 16; Frequency(MHz): 25; GPIO: 47; Multiplier: 32x32; SRAM(B): 6144; SubFamily: 5 Series; Timers - 16-bit: 4; USCI_A (UART/LIN/IrDA/SPI): 2; DatasheetVersion: SLAS677C; PackageVersion: 4204106/F; PackageReference: RGC64; PackageDescription: 64-Pin Plastic Flat Pack, Body 9 x 9 mm, Pitch 0.5 mm; Supplier 1: Digi-Key; Supplier Part Number 1: MSP430F5308IPTR-ND; Supplier 2: Mouser; Supplier Part Number 2: 595-MSP430F5308IPTR; Comparators: Yes; Eco-Plan: Green (RoHS & no Sb/Br); Real-Time Clock: Yes; SVS: Yes; Temp Sensor: Yes; USCI_B (I2C & SPI): 2; Watchdog: Yes; Mounting Technology: Surface Mount; ComponentLink1Description: Manufacturer URL; ComponentLink1URL: http://www.ti.com/; ComponentLink2Description: Datasheet; ComponentLink2URL: http://www.ti.com/general/docs/lit/getliterature.tsp?genericPartNumber=MSP430F5308&fileType=pdf; ComponentLink3Description: Package Specification; ComponentLink3URL: http://www.ti.com/lit/ds/symlink/ucd3138.pdf
footprint TI-RGC64-4250X4250TP_N (QFN, 64-Leads, Body 9x9mm, Pitch 0.5mm, Thermal Pad 4.25x4.25mm, IPC Medium Density)
pins: 1 P6.0/CB0/A0 (io), 2 P6.1/CB1/A1 (io), 3 P6.2/CB2/A2 (io), 4 P6.3/CB3/A3 (io), 5 P6.4/CB4/A4 (io), 6 P6.5/CB5/A5 (io), 7 P6.6/CB6/A6 (io), 8 P6.7/CB7/A7 (io), 9 P5.0/A8/VEREF+ (io), 10 P5.1/A9/VEREF- (io), 11 AVCC1 (power) "Analog power supply", 12 P5.4/XIN (io), 13 P5.5/XOUT (io), 14 AVSS1 (power) "Analog ground supply", 15 DVCC1 (power) "Digital power supply", 16 DVSS1 (power) "Digital ground supply", 17 VCORE "Regulated core power supply output (internal use only, no external current loading)", 18 P1.0/TA0CLK/ACLK (io), 19 P1.1/TA0.0 (io), 20 P1.2/TA0.1 (io), 21 P1.3/TA0.2 (io), 22 P1.4/TA0.3 (io), 23 P1.5/TA0.4 (io), 24 P1.6/TA1CLK/CBOUT (io), 25 P1.7/TA1.0 (io), 26 P2.0/TA1.1 (io), 27 P2.1/TA1.2 (io), 28 P2.2/TA2CLK/SMCLK (io), 29 P2.3/TA2.0 (io), 30 P2.4/TA2.1 (io), 31 P2.5/TA2.2 (io), 32 P2.6/RTCCLK/DMAE0 (io), 33 P2.7/UCB0STE/UCA0CLK (io), 34 P3.0/UCB0SIMO/UCB0SDA (io), 35 P3.1/UCB0SOMI/UCB0SCL (io), 36 P3.2/UCB0CLK/UCA0STE (io), 37 P3.3/UCA0TXD/UCA0SIMO (io), 38 P3.4/UCA0RXD/UCA0SOMI (io), 39 DVSS2 (power) "Digital ground supply", 40 DVCC2 (power) "Digital power supply", 41 P4.0/PM_UCB1STE/PM_UCA1CLK (io), 42 P4.1/PM_UCB1SIMO/PM_UCB1SDA (io), 43 P4.2/PM_UCB1SOMI/PM_UCB1SCL (io), 44 P4.3/PM_UCB1CLK/PM_UCA1STE (io), 45 P4.4/PM_UCA1TXD/PM_UCA1SIMO (io), 46 P4.5/PM_UCA1RXD/PM_UCA1SOMI (io), 47 P4.6/PM_NONE (io), 48 P4.7/PM_NONE (io), 49 VSSU (power) "PU ground supply", 50 PU.0 (io) "General-purpose digital I/O - controlled by PU control register", 51 NC "No connect.", 52 PU.1 (io) "General-purpose digital I/O - controlled by PU control register", 53 LDOI (power) "LDO input", 54 LDOO (power) "LDO output", 55 NC "No connect.", 56 AVSS2 (power) "Analog ground supply", 57 P5.2/XT2IN (io), 58 P5.3/XT2OUT (io), 59 TEST/SBWTCK (in), 60 PJ.0/TDO (io), 61 PJ.1/TDI/TCLK (io), 62 PJ.2/TMS (io), 63 PJ.3/TCK (io), 64 ~{RST}/NMI/SBWTDIO (io), 65 EP (power) "Exposed thermal pad on QFN packages. Connection to VSS is recommended"

## MSP430F5308IRGCT
designator U?
25 MHz Mixed Signal Microcontroller with 16 KB Flash, 6144 B SRAM and 47 GPIOs, -40 to 85 degC, 64-pin QFN (RGC), Green (RoHS & no Sb/Br); Manufacturer: Texas Instruments; PartNumber: MSP430F5308IRGCT; ADC: 10-bit SAR; ADC Channels: 12; Brown Out Reset: Yes; DMA: 3; Flash(KB): 16; Frequency(MHz): 25; GPIO: 47; Multiplier: 32x32; SRAM(B): 6144; SubFamily: 5 Series; Timers - 16-bit: 4; USCI_A (UART/LIN/IrDA/SPI): 2; DatasheetVersion: SLAS677C; PackageVersion: 4204106/F; PackageReference: RGC64; PackageDescription: 64-Pin Plastic Flat Pack, Body 9 x 9 mm, Pitch 0.5 mm; Supplier 1: Digi-Key; Supplier Part Number 1: 296-28202-2-ND; Supplier 2: Digi-Key; Supplier Part Number 2: 296-28202-1-ND; Supplier 3: Digi-Key; Supplier Part Number 3: 296-28202-6-ND; Supplier 4: Farnell; Supplier Part Number 4: 1866785; Supplier 5: Newark; Supplier Part Number 5: 47T2186; Supplier 6: Mouser; Supplier Part Number 6: 595-MSP430F5308IRGCR; Comparators: Yes; Eco-Plan: Green (RoHS & no Sb/Br); Real-Time Clock: Yes; SVS: Yes; Temp Sensor: Yes; USCI_B (I2C & SPI): 2; Watchdog: Yes; Mounting Technology: Surface Mount; ComponentLink1Description: Manufacturer URL; ComponentLink1URL: http://www.ti.com/; ComponentLink2Description: Datasheet; ComponentLink2URL: http://www.ti.com/general/docs/lit/getliterature.tsp?genericPartNumber=MSP430F5308&fileType=pdf; ComponentLink3Description: Package Specification; ComponentLink3URL: http://www.ti.com/lit/ds/symlink/ucd3138.pdf
footprint TI-RGC64-4250X4250TP_N (QFN, 64-Leads, Body 9x9mm, Pitch 0.5mm, Thermal Pad 4.25x4.25mm, IPC Medium Density)
pins: 1 P6.0/CB0/A0 (io), 2 P6.1/CB1/A1 (io), 3 P6.2/CB2/A2 (io), 4 P6.3/CB3/A3 (io), 5 P6.4/CB4/A4 (io), 6 P6.5/CB5/A5 (io), 7 P6.6/CB6/A6 (io), 8 P6.7/CB7/A7 (io), 9 P5.0/A8/VEREF+ (io), 10 P5.1/A9/VEREF- (io), 11 AVCC1 (power) "Analog power supply", 12 P5.4/XIN (io), 13 P5.5/XOUT (io), 14 AVSS1 (power) "Analog ground supply", 15 DVCC1 (power) "Digital power supply", 16 DVSS1 (power) "Digital ground supply", 17 VCORE "Regulated core power supply output (internal use only, no external current loading)", 18 P1.0/TA0CLK/ACLK (io), 19 P1.1/TA0.0 (io), 20 P1.2/TA0.1 (io), 21 P1.3/TA0.2 (io), 22 P1.4/TA0.3 (io), 23 P1.5/TA0.4 (io), 24 P1.6/TA1CLK/CBOUT (io), 25 P1.7/TA1.0 (io), 26 P2.0/TA1.1 (io), 27 P2.1/TA1.2 (io), 28 P2.2/TA2CLK/SMCLK (io), 29 P2.3/TA2.0 (io), 30 P2.4/TA2.1 (io), 31 P2.5/TA2.2 (io), 32 P2.6/RTCCLK/DMAE0 (io), 33 P2.7/UCB0STE/UCA0CLK (io), 34 P3.0/UCB0SIMO/UCB0SDA (io), 35 P3.1/UCB0SOMI/UCB0SCL (io), 36 P3.2/UCB0CLK/UCA0STE (io), 37 P3.3/UCA0TXD/UCA0SIMO (io), 38 P3.4/UCA0RXD/UCA0SOMI (io), 39 DVSS2 (power) "Digital ground supply", 40 DVCC2 (power) "Digital power supply", 41 P4.0/PM_UCB1STE/PM_UCA1CLK (io), 42 P4.1/PM_UCB1SIMO/PM_UCB1SDA (io), 43 P4.2/PM_UCB1SOMI/PM_UCB1SCL (io), 44 P4.3/PM_UCB1CLK/PM_UCA1STE (io), 45 P4.4/PM_UCA1TXD/PM_UCA1SIMO (io), 46 P4.5/PM_UCA1RXD/PM_UCA1SOMI (io), 47 P4.6/PM_NONE (io), 48 P4.7/PM_NONE (io), 49 VSSU (power) "PU ground supply", 50 PU.0 (io) "General-purpose digital I/O - controlled by PU control register", 51 NC "No connect.", 52 PU.1 (io) "General-purpose digital I/O - controlled by PU control register", 53 LDOI (power) "LDO input", 54 LDOO (power) "LDO output", 55 NC "No connect.", 56 AVSS2 (power) "Analog ground supply", 57 P5.2/XT2IN (io), 58 P5.3/XT2OUT (io), 59 TEST/SBWTCK (in), 60 PJ.0/TDO (io), 61 PJ.1/TDI/TCLK (io), 62 PJ.2/TMS (io), 63 PJ.3/TCK (io), 64 ~{RST}/NMI/SBWTDIO (io), 65 EP (power) "Exposed thermal pad on QFN packages. Connection to VSS is recommended"